# Altium schematic symbol library Altium_Other.SchLib: 6 symbols
Pins are listed as number, name and electrical type; pins without a type are passive.

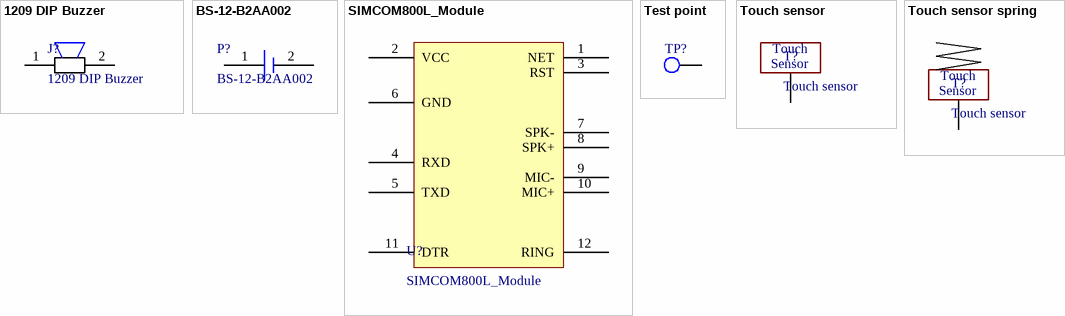
[diagram p0: symbols 1209 DIP Buzzer to Touch sensor spring]

## 1209 DIP Buzzer
designator J?
1209 DIP Buzzer 12x9mm 93dB; Manufacturer: OEM; ComponentLink1Description: Datasheet; ComponentLink1URL: N/A; LCSC Part #: N/A; Manufacturer Part Number: N/A; Mount: THT; Operating Temperature Max: + 70 C; Operating Temperature Min: - 20 C; Package / Case: 1209; Packaging: Tape and Reel; Supplier 1: Mouser; Supplier 1 Part Number: N/A; Supplier 1 URL: N/A; Supplier 2: Digi-Key; Supplier 2 Part Number: N/A; Supplier 2 URL: N/A; Supplier 3: thegioiic; Supplier 3 Part Number: 1209 DIP Buzzer; Supplier 3 URL: https://www.thegioiic.com/1209-dip-buzzer-12x9mm-93db; Value: 1209 DIP Buzzer
footprint 1209_DIP_BUZZER
pins: 1, 2

## BS-12-B2AA002
designator P?
Battery base -25℃~+85℃ SMD Battery Connectors ROHS; Manufacturer: MYOUNG; Value: CR1220; ComponentLink1Description: Datasheet; ComponentLink1URL: https://datasheet.lcsc.com/lcsc/2012311834_MYOUNG-BS-12-B2AA002_C964721.pdf; LCSC Part #: C964721; Manufacturer Part Number: BS-12-B2AA002; Mount: SMD/SMT; Operating Temperature Max: + 85 C; Operating Temperature Min: - 40 C; Package / Case: CR1220;CR1220D;ML1220; Packaging: Tape and Reel; Supplier 1: Mouser; Supplier 1 Part Number: N/A; Supplier 1 URL: N/A; Supplier 2: Digi-Key; Supplier 2 Part Number: N/A; Supplier 2 URL: N/A; Supplier 3: thegioiic; Supplier 3 Part Number: N/A; Supplier 3 URL: N/A
footprint BS-12-B2AA002
pins: 1, 2

## SIMCOM800L_Module
designator U?
Manufacturer: OEM; ComponentLink1Description: Datasheet; ComponentLink1URL: N/A; LCSC Part #: N/A; Manufacturer Part Number: N/A; Mount: N/A; Operating Temperature Max: N/A; Operating Temperature Min: N/A; Package / Case: N/A; Packaging: N/A; Supplier 1: Mouser; Supplier 1 Part Number: N/A; Supplier 1 URL: N/A; Supplier 2: Digi-Key; Supplier 2 Part Number: N/A; Supplier 2 URL: N/A; Supplier 3: thegioiic; Supplier 3 Part Number: N/A; Supplier 3 URL: N/A; Value: N/A
footprint SIMCOM800L
pins: 1 NET, 2 VCC, 3 RST, 4 RXD, 5 TXD, 6 GND, 7 SPK-, 8 SPK+, 9 MIC-, 10 MIC+, 11 DTR, 12 RING

## Test point
designator TP?  (value not drawn)  (no BOM)
Manufacturer: OEM; ComponentLink1Description: Datasheet; ComponentLink1URL: N/A; LCSC Part #: N/A; Manufacturer Part Number: N/A; Mount: N/A; Operating Temperature Max: N/A; Operating Temperature Min: N/A; Package / Case: N/A; Packaging: N/A; Supplier 1: Mouser; Supplier 1 Part Number: N/A; Supplier 1 URL: N/A; Supplier 2: Digi-Key; Supplier 2 Part Number: N/A; Supplier 2 URL: N/A; Supplier 3: thegioiic; Supplier 3 Part Number: N/A; Supplier 3 URL: N/A; Value: N/A
footprint TP
pins: 1 27

## Touch sensor
designator T?  (no BOM)
Touch sensor PCB; Manufacturer: OEM; ComponentLink1Description: Datasheet; ComponentLink1URL: N/A; LCSC Part #: N/A; Manufacturer Part Number: N/A; Mount: N/A; Operating Temperature Max: N/A; Operating Temperature Min: N/A; Package / Case: N/A; Packaging: N/A; Supplier 1: Mouser; Supplier 1 Part Number: N/A; Supplier 1 URL: N/A; Supplier 2: Digi-Key; Supplier 2 Part Number: N/A; Supplier 2 URL: N/A; Supplier 3: thegioiic; Supplier 3 Part Number: N/A; Supplier 3 URL: N/A; Value: N/A
footprint TOUCHSENSOR_PCB
pins: 1 27
text: Touch; Sensor

## Touch sensor spring
designator T?, comment Touch sensor  (no BOM)
9x12mm LX-0912; Manufacturer: OEM; ComponentLink1Description: Datasheet; ComponentLink1URL: N/A; LCSC Part #: N/A; Manufacturer Part Number: N/A; Mount: N/A; Operating Temperature Max: N/A; Operating Temperature Min: N/A; Package / Case: N/A; Packaging: N/A; Supplier 1: Mouser; Supplier 1 Part Number: N/A; Supplier 1 URL: N/A; Supplier 2: Digi-Key; Supplier 2 Part Number: N/A; Supplier 2 URL: N/A; Supplier 3: thegioiic; Supplier 3 Part Number: N/A; Supplier 3 URL: N/A; Value: N/A
footprint TOUCHSENSOR_SPRING
pins: 1 27
text: Touch; Sensor